# Altium footprint library HHO v2.PcbLib: 2 footprints
Each footprint in its own frame and in the unit in brackets; x right, y up, seen from the top. Pads: shape width x height; smd on the part's side, far side on the other; paste and mask are expansions set on the pad; w line width, h text height; cw(c..) or ccw(c..) is an arc to the next point about the centre after c.
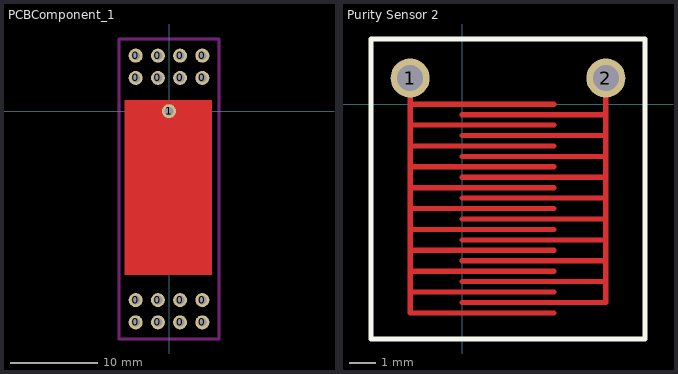
[diagram p0: the footprints below, top view; thin cyan lines are the x and y axes]

## PCBComponent_1 [mm]
pads (17):
  round 1.6 hole 1: 0(-3.81,-24.13) 0(-3.81,-21.59) 0(-3.81,3.81) 0(-3.81,6.35) 0(-1.27,-24.13) 0(-1.27,-21.59) 0(-1.27,3.81) 0(-1.27,6.35) 0(1.27,-24.13) 0(1.27,-21.59) 0(1.27,3.81) 0(1.27,6.35) 0(3.81,-24.13) 0(3.81,-21.59) 0(3.81,3.81) 0(3.81,6.35) 1(0,0)
Top Layer:
  rectangle: -5.08,-18.73 4.92,1.27
Keep-Out Layer:
  lines w0.3: -5.715,-26.035 -5.715,8.255 5.715,8.255 5.715,-26.035 -5.715,-26.035

## Purity Sensor 2 [mm]
pads (2):
  round 1.5 hole 1: 1(-2,1) 2(5.5,1)
Top Layer:
  lines w0.2: -2,-7.2 0,-7.2 3.5,-7.2 ; -2,-6.4 0,-6.4 3.5,-6.4 ; -2,-5.6 0,-5.6 3.5,-5.6 ; -2,-4.8 0,-4.8 3.5,-4.8 ; -2,-4 0,-4 3.5,-4 ; -2,-3.2 0,-3.2 3.5,-3.2 ; -2,-2.3 -2,-2.4 0,-2.4 3.5,-2.4 ; -2,-1.6 0,-1.6 3.5,-1.6 ; -2,-0.8 0,-0.8 3.5,-0.8 ; -2,1 -2,0 ; 0,-7.6 3.5,-7.6 5.5,-7.6 5.5,0 5.5,1 ; 0,-6.8 3.5,-6.8 5.5,-6.8 ; 0,-6 3.5,-6 5.5,-6 ; 0,-5.2 3.5,-5.2 5.5,-5.2 ; 0,-4.4 3.5,-4.4 5.5,-4.4 ; 0,-3.6 3.5,-3.6 5.4,-3.6 ; 0,-2.8 3.5,-2.8 5.5,-2.8 ; 0,-2 3.5,-2 5.5,-2 ; 0,-1.2 3.5,-1.2 5.5,-1.2 ; 0,-0.4 3.5,-0.4 5.5,-0.4 ; 3.5,-8 0,-8 -2,-8 -2,0 ; 3.5,0 0,0 -2,0
Top Overlay:
  lines w0.2: -3.5,-9 -3.5,2.5 7,2.5 7,-9 -3.5,-9
Top Solder:
  lines w0.25: 0,-7.8 3.5,-7.8 ; 0,-7.4 3.5,-7.4 ; 0,-7 3.5,-7 ; 0,-6.6 3.5,-6.6 ; 0,-6.2 3.5,-6.2 ; 0,-5.8 3.5,-5.8 ; 0,-5.4 3.5,-5.4 ; 0,-5 3.5,-5 ; 0,-4.6 3.5,-4.6 ; 0,-4.2 3.5,-4.2 ; 0,-3.8 3.5,-3.8 ; 0,-3.4 3.5,-3.4 ; 0,-3 3.5,-3 ; 0,-2.6 3.5,-2.6 ; 0,-2.2 3.5,-2.2 ; 0,-1.8 3.5,-1.8 ; 0,-1.4 3.5,-1.4 ; 0,-1 3.5,-1 ; 0,-0.6 3.5,-0.6 ; 0,-0.2 3.5,-0.2